# EAGLE library part MOLEX_503182_1853 (library stepOSP)
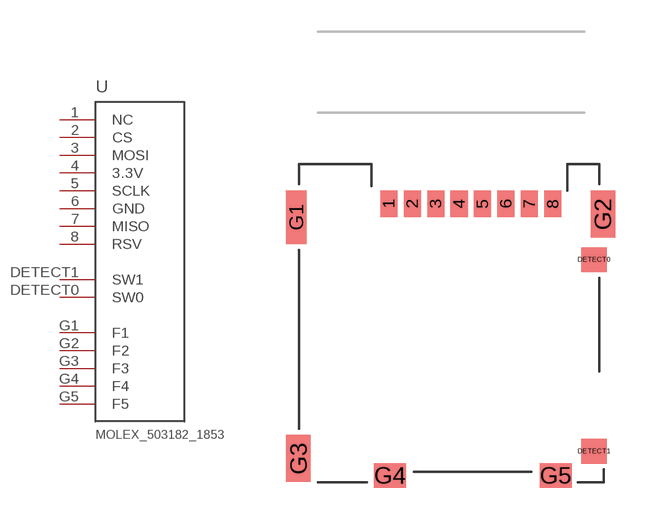
[diagram p11: symbol with the pads of MOLEX_5031821853; footprint MOLEX_5031821853]

Designator prefix -

## MOLEX_503182_1853  [MOLEX_5031821853]
1  NC
2  CS
3  MOSI
4  3.3V
5  SCLK
6  GND
7  MISO
8  RSV
DETECT0  SW0
DETECT1  SW1
G1  F1
G2  F2
G3  F3
G4  F4
G5  F5

## Footprint MOLEX_5031821853 (pad centres in mm)
smd 0.8 x 1.24: 1 4.82,-0.62; 2 5.92,-0.62; 3 7.02,-0.62; 4 8.12,-0.62; 5 9.22,-0.62; 6 10.32,-0.62; 7 11.42,-0.62; 8 12.52,-0.62
smd 1.2 x 1.16: DETECT0 14.46,-3.25; DETECT1 14.46,-12.25
smd 0.95 x 2.5: G1 0.475,-1.25
smd 1.15 x 2.2: G2 14.865,-1.1; G3 0.575,-12.58
smd 1.5 x 1.15: G4 4.88,-13.375; G5 12.66,-13.375